# EAGLE library part HMC427 (library analog-devices)
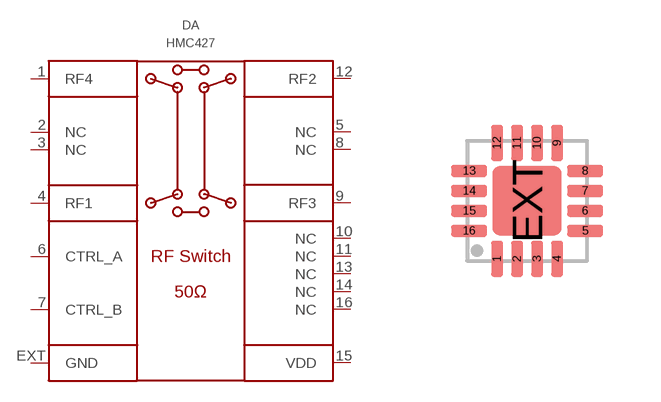
[diagram p19: symbol with the pads of SMT16; footprint SMT16]

Designator prefix DA

## HMC427LP3  [SMT16]
1  RF4  pas
2  NC  nc
3  NC  nc
4  RF1  pas
5  NC  nc
6  CTRL_A  in
7  CTRL_B  in
8  NC  nc
9  RF3  pas
10  NC  nc
11  NC  nc
12  RF2  pas
13  NC  nc
14  NC  nc
15  VDD  pwr
16  NC  nc
EXT  GND  pwr

## HMC427LP3E  [SMT16]
Pads as for SMT16

## Footprint SMT16 (pad centres in mm)
smd 0.3 x 0.9: 1 -0.75,-1.45; 2 -0.25,-1.45; 3 0.25,-1.45; 4 0.75,-1.45; 9 0.75,1.45; 10 0.25,1.45; 11 -0.25,1.45; 12 -0.75,1.45
smd 0.9 x 0.3: 5 1.45,-0.75; 6 1.45,-0.25; 7 1.45,0.25; 8 1.45,0.75; 13 -1.45,0.75; 14 -1.45,0.25; 15 -1.45,-0.25; 16 -1.45,-0.75
smd 1.725 x 1.725: EXT 0,0